# EAGLE library part MOD-LED8X8RGB-CONN (library ENGI301_Maze_Project_Parts)
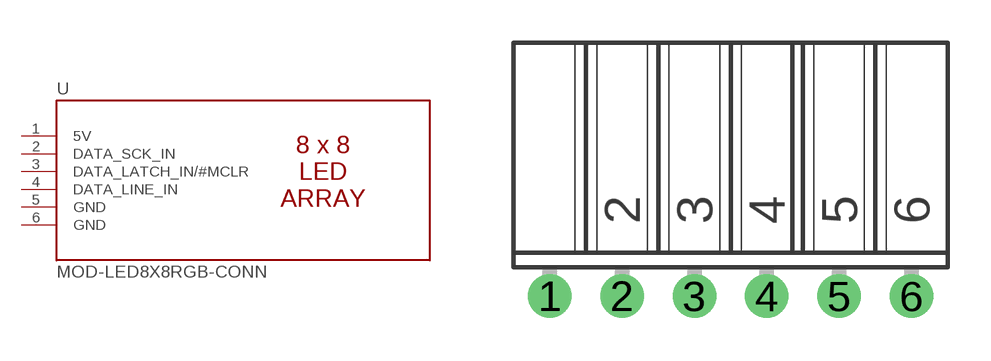
[diagram p1: symbol with the pads of FE06W; footprint FE06W]

Designator prefix U

## MOD-LED8X8RGB-CONN  [FE06W]
1  5V
2  DATA_SCK_IN
3  DATA_LATCH_IN/#MCLR
4  DATA_LINE_IN
5  GND
6  GND

## Footprint FE06W (pad centres in mm)
FEMALE HEADER
drill 1.016: 1 -6.35,0; 2 -3.81,0; 3 -1.27,0; 4 1.27,0; 5 3.81,0; 6 6.35,0